# Altium schematic symbol library Term,Header,6x2 Pin,2.54mm,Right,Thru.Schlib: 1 symbol
Pins are listed as number, name and electrical type; pins without a type are passive.

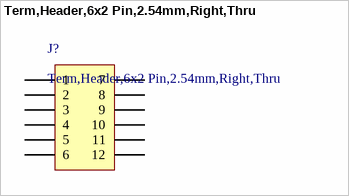
[diagram p0: symbol Term,Header,6x2 Pin,2.54mm,Right,Thru]

## Term,Header,6x2 Pin,2.54mm,Right,Thru
designator J?
Connector Header Through Hole, Right Angle 12 position 0.100" (2.54mm)
pins: 1, 2, 3, 4, 5, 6, 7, 8, 9, 10, 11, 12